# EAGLE library part ATSAM4E_100 (library atsam)
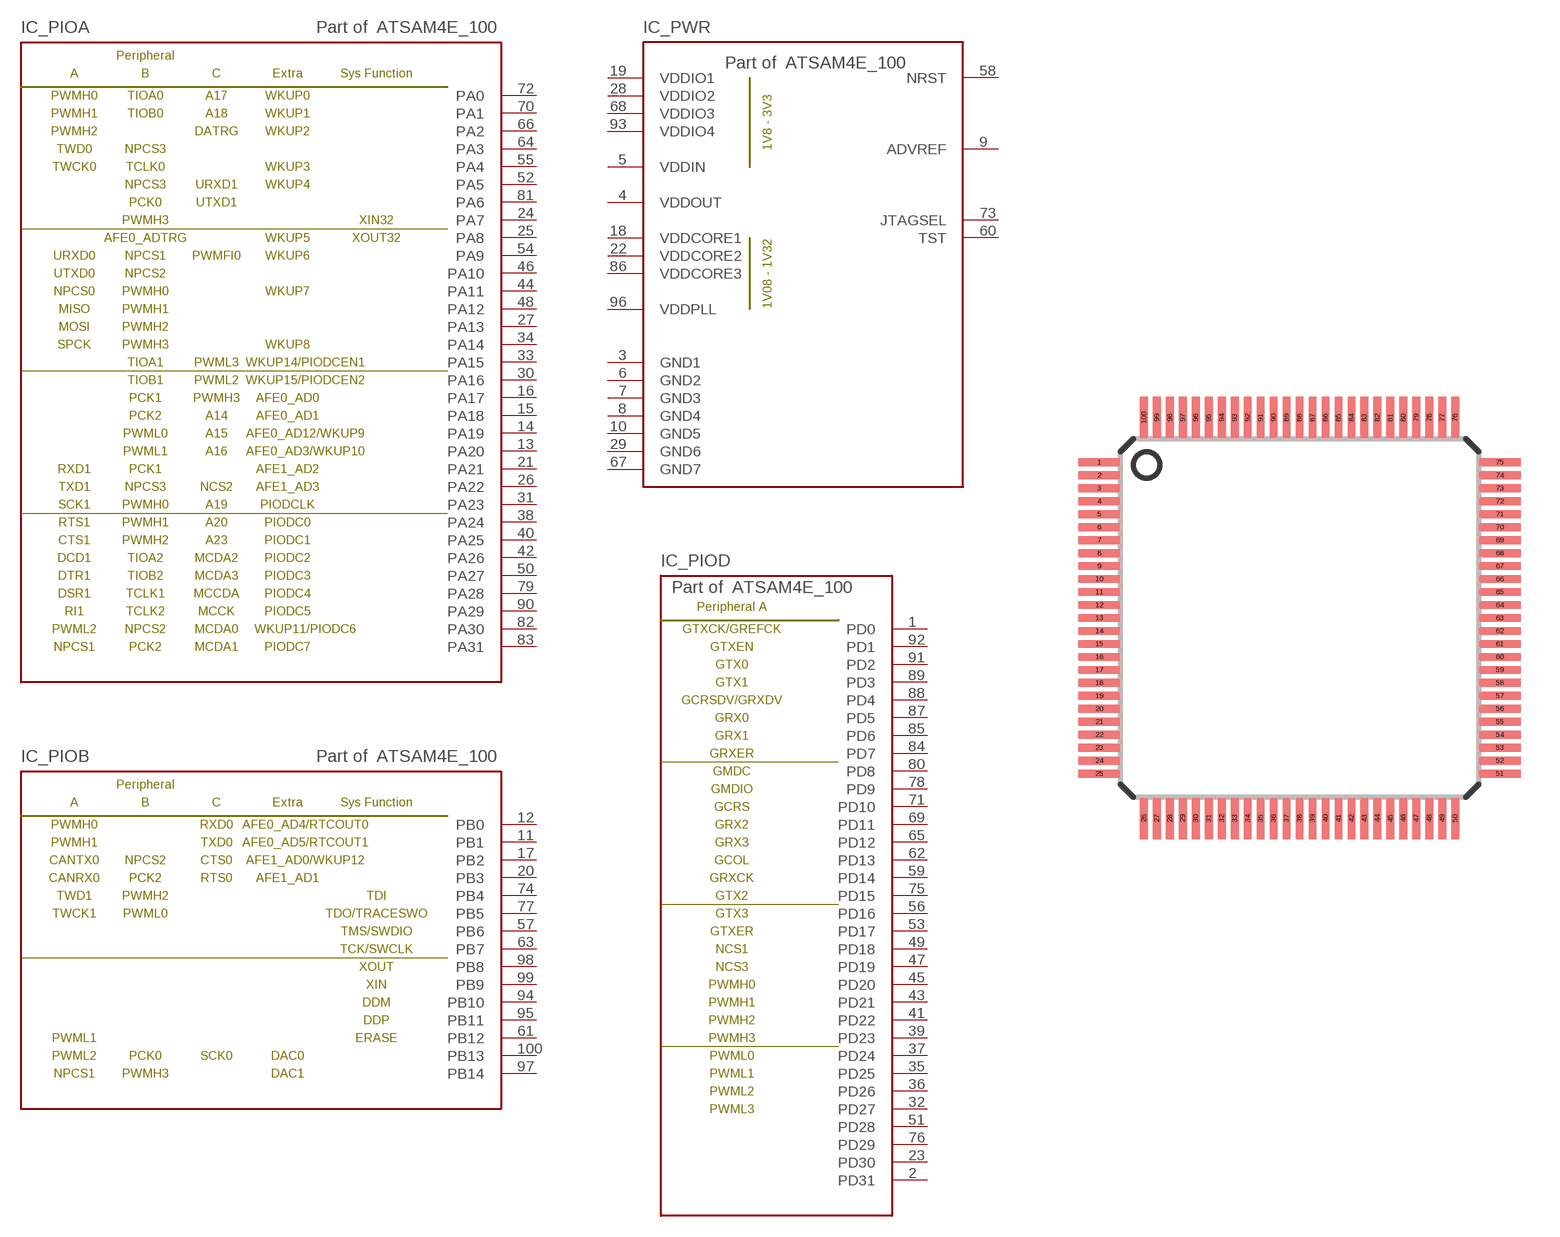
[diagram p0: symbol with the pads of LQFP100; footprint LQFP100]

Designator prefix IC; gates _PIOA=ATSAM4E_PIOA _PIOB=ATSAM4E_PIOB _PWR=ATSAM4E_PWR _PIOD=ATSAM4E_PIOD

## ATSAM4E_100  [LQFP100]
1  _PIOD:PD0
2  _PIOD:PD31
3  _PWR:GND1
4  _PWR:VDDOUT
5  _PWR:VDDIN
6  _PWR:GND2
7  _PWR:GND3
8  _PWR:GND4
9  _PWR:ADVREF
10  _PWR:GND5
11  _PIOB:PB1
12  _PIOB:PB0
13  _PIOA:PA20
14  _PIOA:PA19
15  _PIOA:PA18
16  _PIOA:PA17
17  _PIOB:PB2
18  _PWR:VDDCORE1
19  _PWR:VDDIO1
20  _PIOB:PB3
21  _PIOA:PA21
22  _PWR:VDDCORE2
23  _PIOD:PD30
24  _PIOA:PA7
25  _PIOA:PA8
26  _PIOA:PA22
27  _PIOA:PA13
28  _PWR:VDDIO2
29  _PWR:GND6
30  _PIOA:PA16
31  _PIOA:PA23
32  _PIOD:PD27
33  _PIOA:PA15
34  _PIOA:PA14
35  _PIOD:PD25
36  _PIOD:PD26
37  _PIOD:PD24
38  _PIOA:PA24
39  _PIOD:PD23
40  _PIOA:PA25
41  _PIOD:PD22
42  _PIOA:PA26
43  _PIOD:PD21
44  _PIOA:PA11
45  _PIOD:PD20
46  _PIOA:PA10
47  _PIOD:PD19
48  _PIOA:PA12
49  _PIOD:PD18
50  _PIOA:PA27
51  _PIOD:PD28
52  _PIOA:PA5
53  _PIOD:PD17
54  _PIOA:PA9
55  _PIOA:PA4
56  _PIOD:PD16
57  _PIOB:PB6
58  _PWR:NRST
59  _PIOD:PD14
60  _PWR:TST
61  _PIOB:PB12
62  _PIOD:PD13
63  _PIOB:PB7
64  _PIOA:PA3
65  _PIOD:PD12
66  _PIOA:PA2
67  _PWR:GND7
68  _PWR:VDDIO3
69  _PIOD:PD11
70  _PIOA:PA1
71  _PIOD:PD10
72  _PIOA:PA0
73  _PWR:JTAGSEL
74  _PIOB:PB4
75  _PIOD:PD15
76  _PIOD:PD29
77  _PIOB:PB5
78  _PIOD:PD9
79  _PIOA:PA28
80  _PIOD:PD8
81  _PIOA:PA6
82  _PIOA:PA30
83  _PIOA:PA31
84  _PIOD:PD7
85  _PIOD:PD6
86  _PWR:VDDCORE3
87  _PIOD:PD5
88  _PIOD:PD4
89  _PIOD:PD3
90  _PIOA:PA29
91  _PIOD:PD2
92  _PIOD:PD1
93  _PWR:VDDIO4
94  _PIOB:PB10
95  _PIOB:PB11
96  _PWR:VDDPLL
97  _PIOB:PB14
98  _PIOB:PB8
99  _PIOB:PB9
100  _PIOB:PB13

## Footprint LQFP100 (pad centres in mm)
smd 1.6 x 0.3: 1 -7.72,6; 2 -7.72,5.5; 3 -7.72,5; 4 -7.72,4.5; 5 -7.72,4; 6 -7.72,3.5; 7 -7.72,3; 8 -7.72,2.5; 9 -7.72,2; 10 -7.72,1.5; 11 -7.72,1; 12 -7.72,0.5; 13 -7.72,0; 14 -7.72,-0.5; 15 -7.72,-1; 16 -7.72,-1.5; 17 -7.72,-2; 18 -7.72,-2.5; 19 -7.72,-3; 20 -7.72,-3.5; 21 -7.72,-4; 22 -7.72,-4.5; 23 -7.72,-5; 24 -7.72,-5.5; 25 -7.72,-6; 51 7.72,-6; 52 7.72,-5.5; 53 7.72,-5; 54 7.72,-4.5; 55 7.72,-4; 56 7.72,-3.5; 57 7.72,-3; 58 7.72,-2.5; 59 7.72,-2; 60 7.72,-1.5; 61 7.72,-1; 62 7.72,-0.5; 63 7.72,0; 64 7.72,0.5; 65 7.72,1; 66 7.72,1.5; 67 7.72,2; 68 7.72,2.5; 69 7.72,3; 70 7.72,3.5; 71 7.72,4; 72 7.72,4.5; 73 7.72,5; 74 7.72,5.5; 75 7.72,6
smd 0.3 x 1.6: 26 -6,-7.72; 27 -5.5,-7.72; 28 -5,-7.72; 29 -4.5,-7.72; 30 -4,-7.72; 31 -3.5,-7.72; 32 -3,-7.72; 33 -2.5,-7.72; 34 -2,-7.72; 35 -1.5,-7.72; 36 -1,-7.72; 37 -0.5,-7.72; 38 0,-7.72; 39 0.5,-7.72; 40 1,-7.72; 41 1.5,-7.72; 42 2,-7.72; 43 2.5,-7.72; 44 3,-7.72; 45 3.5,-7.72; 46 4,-7.72; 47 4.5,-7.72; 48 5,-7.72; 49 5.5,-7.72; 50 6,-7.72; 76 6,7.72; 77 5.5,7.72; 78 5,7.72; 79 4.5,7.72; 80 4,7.72; 81 3.5,7.72; 82 3,7.72; 83 2.5,7.72; 84 2,7.72; 85 1.5,7.72; 86 1,7.72; 87 0.5,7.72; 88 0,7.72; 89 -0.5,7.72; 90 -1,7.72; 91 -1.5,7.72; 92 -2,7.72; 93 -2.5,7.72; 94 -3,7.72; 95 -3.5,7.72; 96 -4,7.72; 97 -4.5,7.72; 98 -5,7.72; 99 -5.5,7.72; 100 -6,7.72